# Altium footprint library IGBT.PcbLib: 3 footprints
Each footprint in its own frame and in the unit in brackets; x right, y up, seen from the top. Pads: shape width x height; smd on the part's side, far side on the other; paste and mask are expansions set on the pad; w line width, h text height; cw(c..) or ccw(c..) is an arc to the next point about the centre after c.
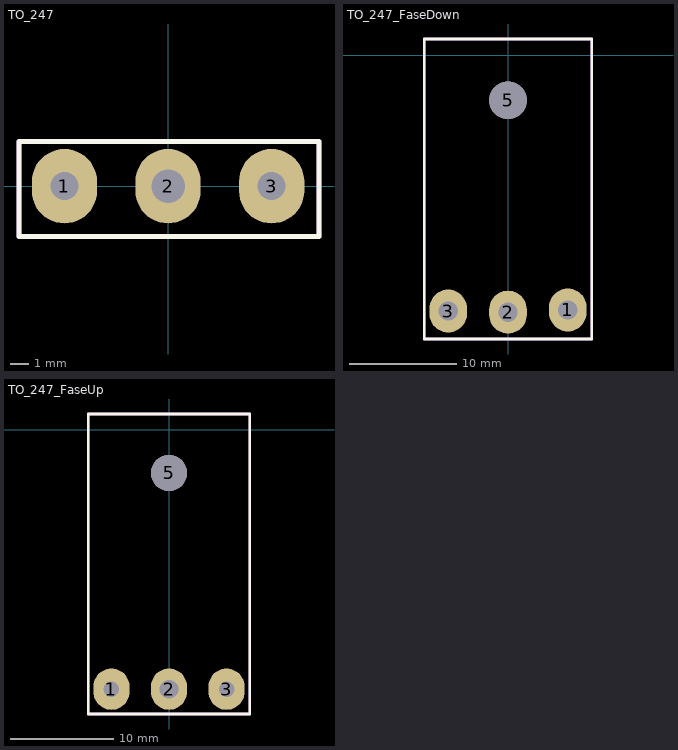
[diagram p0: the footprints below, top view; thin cyan lines are the x and y axes]

## TO_247 [mm]
pads (3):
  oval 3.5x4 hole 1.5: 1(-5.56,0) 3(5.56,0)
  oval 3.5x4 hole 1.8: 2(0,0)
Top Overlay:
  lines w0.254: -8,-2.7 8.1,-2.7 8.1,2.4 -8,2.4 -8,-2.7
Mechanical 7:
  lines w0.254: -8,-2.7 -8,2.4 8.1,2.4 8.1,-2.7 -8,-2.7
  text ".Designator" at -7,-0.9 h1.52
3D body "TO-247-3-21.step": height 25.45, standoff -15.68, extent -7.95,-2.7 7.95,2.4

## TO_247_FaseDown [mm]
pads (4):
  oval 3.5x4 hole 1.8: 1(5.56,-23.7) 2(0,-23.9) 3(-5.56,-23.8)
  round 3.5 hole 3.5 unplated: 5(0,-4.2)
Top Overlay:
  lines w0.254: -7.8,-26.4 7.8,-26.4 7.8,1.5 -7.8,1.5 -7.8,-26.4
Mechanical 7:
  lines w0.254: -7.8,-26.4 -7.8,1.5 7.8,1.5 7.8,-26.4 -7.8,-26.4
  text ".Designator" at -4,-10.5 h1.52
3D body "TO-247H.step": height 5.5, standoff -6.4, extent -7.75,-24 7.75,1.4

## TO_247_FaseUp [mm]
pads (4):
  oval 3.5x4 hole 1.5: 1(-5.56,-25.1) 3(5.56,-25.1)
  oval 3.5x4 hole 1.8: 2(0,-25.1)
  round 3.5 hole 3.5 unplated: 5(0,-4.2)
Top Overlay:
  lines w0.254: -7.8,-27.5 -7.8,1.5 7.8,1.5 7.8,-27.5 -7.8,-27.5
Mechanical 7:
  lines w0.254: -7.8,-27.5 7.8,-27.5 7.8,1.5 -7.8,1.5 -7.8,-27.5
  text ".Designator" at -4,-10.5 h1.52
3D body "TO-247_bent_leads.step": height 5.4, standoff -6.6, extent -7.95,-25.582 7.95,1.4